# Altium footprint library C0805C105K6RAC7800.PcbLib: 3 footprints
Each footprint in its own frame and in the unit in brackets; x right, y up, seen from the top. Pads: shape width x height; smd on the part's side, far side on the other; paste and mask are expansions set on the pad; w line width, h text height; cw(c..) or ccw(c..) is an arc to the next point about the centre after c.
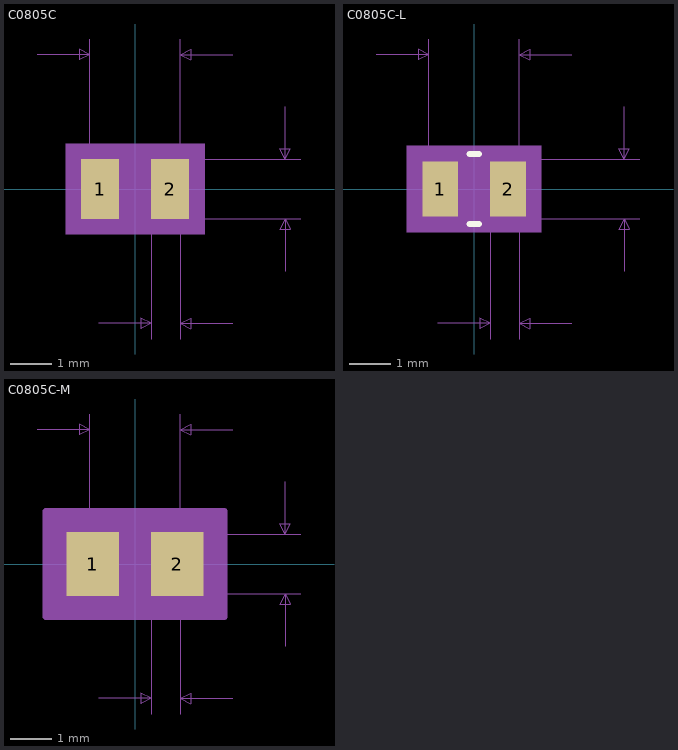
[diagram p0: the footprints below, top view; thin cyan lines are the x and y axes]

## C0805C [mil]
pads (2):
  rect 36x57 smd: 1(-33.5,0) 2(33.5,0)
Mechanical 5:
  region: 66.5,-43.5 -66.5,-43.5 -66.5,43.5 66.5,43.5
Mechanical 7:
  lines w1: -93.5,128.5 -43.5,128.5 ; -43.5,0 -43.5,143.5 ; -34.5,-128.5 15.5,-128.5 ; 0,-28.5 158.5,-28.5 ; 0,28.5 158.5,28.5 ; 15.5,-143.5 15.5,0 ; 43.5,-143.5 43.5,0 43.5,143.5 ; 93.5,-128.5 43.5,-128.5 ; 93.5,128.5 43.5,128.5 ; 143.5,-78.5 143.5,-28.5 ; 143.5,78.5 143.5,28.5 ; -43.5,128.5 -53.5,133.5 -53.5,123.5 -43.5,128.5 ; 15.5,-128.5 5.5,-123.5 5.5,-133.5 15.5,-128.5 ; 43.5,-128.5 53.5,-123.5 53.5,-133.5 43.5,-128.5 ; 43.5,128.5 53.5,133.5 53.5,123.5 43.5,128.5 ; 143.5,-28.5 138.5,-38.5 148.5,-38.5 143.5,-28.5 ; 143.5,28.5 138.5,38.5 148.5,38.5 143.5,28.5
  text "Default Padstyle: RX36Y57D0T" at -350,-298.5 h50
  text "Alternate 1 Padstyle: OX60Y90D30P" at -412.5,-398.5 h50
  text "Alternate 2 Padstyle: OX90Y60D30P" at -412.5,-498.5 h50
  text "0.057in/1.448mm" at 163.5,-12.5 h25
  text "0.087in/2.21mm" at -87.5,148.5 h25
  text "0.028in/0.711mm" at -64.25,-173.5 h25
Mechanical 13:
  lines w1: -43.5,-28.5 -43.5,28.5 ; -43.5,-28.5 -15.5,-28.5 -15.5,28.5 -43.5,28.5 ; -43.5,-28.5 43.5,-28.5 ; -43.5,-28.5 -43.5,28.5 ; -43.5,28.5 43.5,28.5 ; 43.5,-28.5 15.5,-28.5 15.5,28.5 43.5,28.5 ; 43.5,-28.5 43.5,28.5 ; 43.5,-28.5 43.5,28.5
Mechanical 15:
  region: 61.5,-38.5 -61.5,-38.5 -61.5,38.5 61.5,38.5
  lines w6: -61.5,-38.5 -61.5,38.5 61.5,38.5 61.5,-38.5 -61.5,-38.5
3D body: height 10, standoff 0, extent 0,0 10,10

## C0805C-L [mil]
pads (2):
  rect 34x53 smd paste+0 mask+0: 1(-32.5,0) 2(32.5,0)
Top Overlay:
  lines w6: -4.43,-33.5 4.43,-33.5 ; -4.43,33.5 4.43,33.5
Mechanical 5:
  region: 64.5,-41.5 -64.5,-41.5 -64.5,41.5 64.5,41.5
Mechanical 7:
  lines w1: -93.5,128.5 -43.5,128.5 ; -43.5,0 -43.5,143.5 ; -34.5,-128.5 15.5,-128.5 ; 0,-28.5 158.5,-28.5 ; 0,28.5 158.5,28.5 ; 15.5,-143.5 15.5,0 ; 43.5,-143.5 43.5,0 43.5,143.5 ; 93.5,-128.5 43.5,-128.5 ; 93.5,128.5 43.5,128.5 ; 143.5,-78.5 143.5,-28.5 ; 143.5,78.5 143.5,28.5 ; -43.5,128.5 -53.5,133.5 -53.5,123.5 -43.5,128.5 ; 15.5,-128.5 5.5,-123.5 5.5,-133.5 15.5,-128.5 ; 43.5,-128.5 53.5,-123.5 53.5,-133.5 43.5,-128.5 ; 43.5,128.5 53.5,133.5 53.5,123.5 43.5,128.5 ; 143.5,-28.5 138.5,-38.5 148.5,-38.5 143.5,-28.5 ; 143.5,28.5 138.5,38.5 148.5,38.5 143.5,28.5
  text "Default Padstyle: RX34Y53D0T" at -350,-296.5 h50
  text "Alternate 1 Padstyle: OX60Y90D30P" at -412.5,-396.5 h50
  text "Alternate 2 Padstyle: OX90Y60D30P" at -412.5,-496.5 h50
  text "0.057in/1.448mm" at 163.5,-12.5 h25
  text "0.087in/2.21mm" at -87.5,148.5 h25
  text "0.028in/0.711mm" at -64.25,-173.5 h25
Mechanical 13:
  lines w1: -43.5,-28.5 -43.5,28.5 ; -43.5,-28.5 -15.5,-28.5 -15.5,28.5 -43.5,28.5 ; -43.5,-28.5 43.5,-28.5 ; -43.5,-28.5 -43.5,28.5 ; -43.5,28.5 43.5,28.5 ; 43.5,-28.5 15.5,-28.5 15.5,28.5 43.5,28.5 ; 43.5,-28.5 43.5,28.5 ; 43.5,-28.5 43.5,28.5
Mechanical 15:
  region: 53.5,-30.5 -53.5,-30.5 -53.5,30.5 53.5,30.5
  lines w6: -53.5,-30.5 -53.5,30.5 53.5,30.5 53.5,-30.5 -53.5,-30.5
3D body: height 10, standoff 0, extent 0,0 10,10

## C0805C-M [mil]
pads (2):
  rect 50x61 smd paste+0 mask+0: 1(-40.5,0) 2(40.5,0)
Mechanical 5:
  region: 80.5,-45.5 -80.5,-45.5 -80.5,45.5 80.5,45.5
Mechanical 7:
  lines w1: -93.5,128.5 -43.5,128.5 ; -43.5,0 -43.5,143.5 ; -34.5,-128.5 15.5,-128.5 ; 0,-28.5 158.5,-28.5 ; 0,28.5 158.5,28.5 ; 15.5,-143.5 15.5,0 ; 43.5,-143.5 43.5,0 43.5,143.5 ; 93.5,-128.5 43.5,-128.5 ; 93.5,128.5 43.5,128.5 ; 143.5,-78.5 143.5,-28.5 ; 143.5,78.5 143.5,28.5 ; -43.5,128.5 -53.5,133.5 -53.5,123.5 -43.5,128.5 ; 15.5,-128.5 5.5,-123.5 5.5,-133.5 15.5,-128.5 ; 43.5,-128.5 53.5,-123.5 53.5,-133.5 43.5,-128.5 ; 43.5,128.5 53.5,133.5 53.5,123.5 43.5,128.5 ; 143.5,-28.5 138.5,-38.5 148.5,-38.5 143.5,-28.5 ; 143.5,28.5 138.5,38.5 148.5,38.5 143.5,28.5
  text "Default Padstyle: RX50Y61D0T" at -350,-300.5 h50
  text "Alternate 1 Padstyle: OX60Y90D30P" at -412.5,-400.5 h50
  text "Alternate 2 Padstyle: OX90Y60D30P" at -412.5,-500.5 h50
  text "0.057in/1.448mm" at 163.5,-12.5 h25
  text "0.087in/2.21mm" at -87.5,148.5 h25
  text "0.028in/0.711mm" at -64.25,-173.5 h25
Mechanical 13:
  lines w1: -43.5,-28.5 -43.5,28.5 ; -43.5,-28.5 -15.5,-28.5 -15.5,28.5 -43.5,28.5 ; -43.5,-28.5 43.5,-28.5 ; -43.5,-28.5 -43.5,28.5 ; -43.5,28.5 43.5,28.5 ; 43.5,-28.5 15.5,-28.5 15.5,28.5 43.5,28.5 ; 43.5,-28.5 43.5,28.5 ; 43.5,-28.5 43.5,28.5
Mechanical 15:
  region: 85.5,-50.5 -85.5,-50.5 -85.5,50.5 85.5,50.5
  lines w6: -85.5,-50.5 -85.5,50.5 85.5,50.5 85.5,-50.5 -85.5,-50.5
3D body: height 10, standoff 0, extent 0,0 10,10